# EAGLE library part TPN3R704PL,L1Q (library parts)
MOSFET 40 Volt N-Channel Source: Datasheet <https://toshiba.semicon-storage.com/info/docget.jsp?did=30643&prodName=TPN3R704PL>
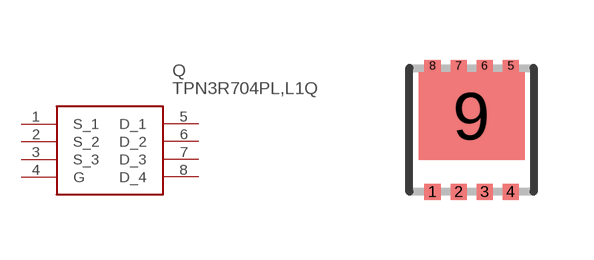
[diagram p3: symbol with the pads of TSON_ADVANCE; footprint TSON_ADVANCE]

Designator prefix Q

## TPN3R704PL,L1Q (DESCRIPTION: MOSFET 40 Volt N-Channel; HEIGHT: mm; MANUFACTURER_NAME: Toshiba; MANUFACTURER_PART_NUMBER: TPN3R704PL,L1Q; MOUSER_PART_NUMBER: 757-TPN3R704PLL1Q; MOUSER_PRICE-STOCK: https://www.mouser.com/Search/Refine.aspx?Keyword=757-TPN3R704PLL1Q)  [TSON_ADVANCE]
1  S_1
2  S_2
3  S_3
4  G
5  D_1
6  D_2
7  D_3
8  D_4

## Footprint TSON_ADVANCE (pad centres in mm)
TSON ADVANCE
smd 0.4 x 0.4: 1 -0.975,-1.55; 2 -0.325,-1.55; 3 0.325,-1.55; 4 0.975,-1.55
smd 0.4 x 0.3: 5 0.975,1.6; 6 0.325,1.6; 7 -0.325,1.6; 8 -0.975,1.6
smd 2.65 x 2.2: 9 0,0.35